# Altium schematic symbol library Schlib1.SchLib: 11 symbols
Pins are listed as number, name and electrical type; pins without a type are passive.

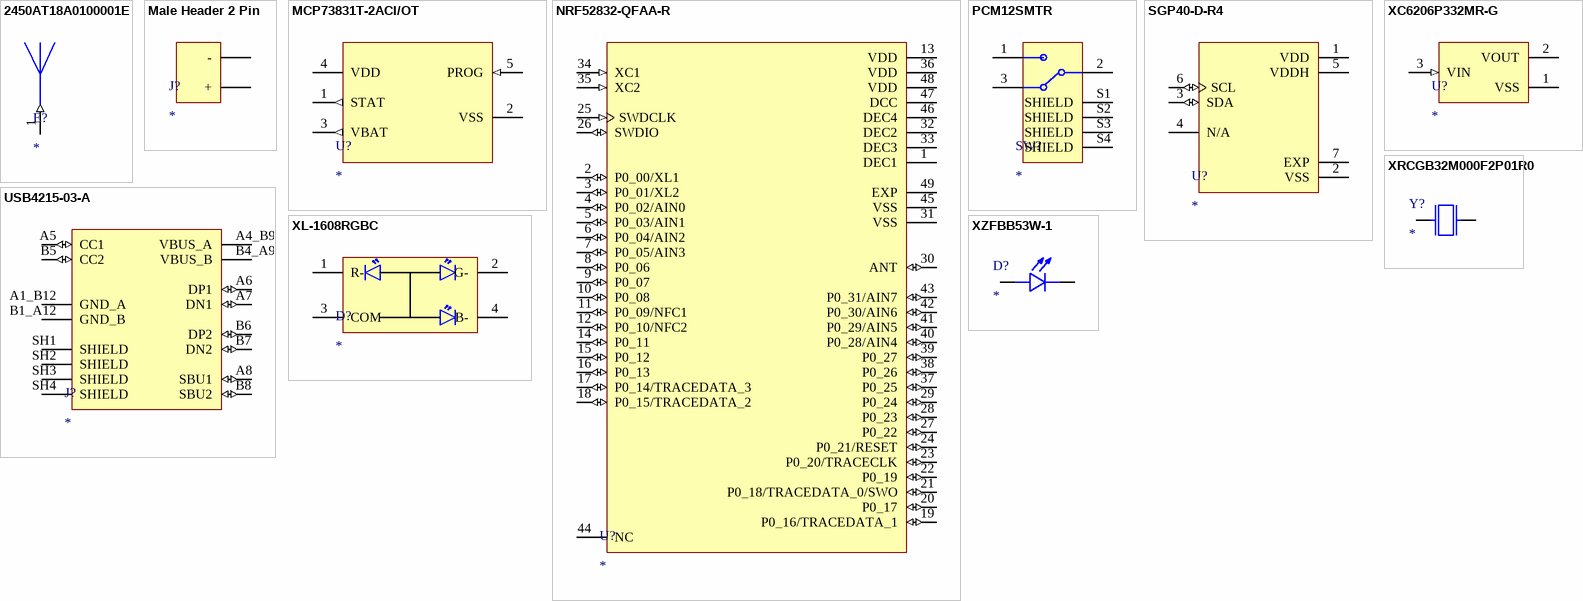
[diagram p0: symbols 2450AT18A0100001E to XZFBB53W-1]

## 2450AT18A0100001E
designator E?
2.4GHz Chip RF Antenna 2.4GHz ~ 2.5GHz 0.5dBi Solder Surface Mount
footprint 2450AT18A0100001E
pins: 1 (in)

## Male Header 2 Pin
designator J?
footprint Male Header 2 Pin
pins: 01 -, 02 +

## MCP73831T-2ACI/OT
designator U?
Charger IC Lithium Ion/Polymer SOT-23-5
footprint MCP73831T-2ACI/OT
pins: 1 STAT (out), 2 VSS (power), 3 VBAT (out), 4 VDD (power), 5 PROG (in)

## NRF52832-QFAA-R
designator U?
IC RF TxRx + MCU Bluetooth, General ISM > 1GHz ANT, Bluetooth v5.0 2.4GHz 48-VFQFN Exposed Pad
footprint NRF52832-QFAA-R
pins: 1 DEC1 (power), 2 P0_00/XL1 (io), 3 P0_01/XL2 (io), 4 P0_02/AIN0 (io), 5 P0_03/AIN1 (io), 6 P0_04/AIN2 (io), 7 P0_05/AIN3 (io), 8 P0_06 (io), 9 P0_07 (io), 10 P0_08 (io), 11 P0_09/NFC1 (io), 12 P0_10/NFC2 (io), 13 VDD (power), 14 P0_11 (io), 15 P0_12 (io), 16 P0_13 (io), 17 P0_14/TRACEDATA_3 (io), 18 P0_15/TRACEDATA_2 (io), 19 P0_16/TRACEDATA_1 (io), 20 P0_17 (io), 21 P0_18/TRACEDATA_0/SWO (io), 22 P0_19 (io), 23 P0_20/TRACECLK (io), 24 P0_21/RESET (io), 25 SWDCLK (in), 26 SWDIO (io), 27 P0_22 (io), 28 P0_23 (io), 29 P0_24 (io), 30 ANT (io), 31 VSS (power), 32 DEC2 (power), 33 DEC3 (power), 34 XC1 (in), 35 XC2 (in), 36 VDD (power), 37 P0_25 (io), 38 P0_26 (io), 39 P0_27 (io), 40 P0_28/AIN4 (io), 41 P0_29/AIN5 (io), 42 P0_30/AIN6 (io), 43 P0_31/AIN7 (io), 44 NC, 45 VSS (power), 46 DEC4 (power), 47 DCC (power), 48 VDD (power), 49 EXP (power)

## PCM12SMTR
designator SW?
Slide Switch SPDT Surface Mount, Right Angle
footprint PCM12SMTR
pins: 1, 2, 3, S1 SHIELD, S2 SHIELD, S3 SHIELD, S4 SHIELD

## SGP40-D-R4
designator U?
MOx based gas sensor for indoor air quality applications
footprint SGP40-D-R4
pins: 1 VDD (power), 2 VSS (power), 3 SDA (io), 4 N/A, 5 VDDH (power), 6 SCL (io), 7 EXP (power)

## USB4215-03-A
designator J?
USB-C (USB TYPE-C) USB 2.0 Receptacle Connector 24 (16+8 Dummy) Position Surface Mount, Right Angle; Through Hole
footprint USB4215-03-A
pins: A1_B12 GND_A (power), A4_B9 VBUS_A (power), A5 CC1 (io), A6 DP1 (io), A7 DN1 (io), A8 SBU1 (io), B1_A12 GND_B (power), B4_A9 VBUS_B (power), B5 CC2 (io), B6 DP2 (io), B7 DN2 (io), B8 SBU2 (io), SH1 SHIELD, SH2 SHIELD, SH3 SHIELD, SH4 SHIELD

## XC6206P332MR-G
designator U?
Linear Voltage Regulator IC Positive Fixed 1 Output 200mA SOT-23
footprint SOT-23
pins: 1 VSS, 2 VOUT (power), 3 VIN (in)

## XL-1608RGBC
designator D?
Red, Green, Blue (RGB) 625nm Red, 525nm Green, 470nm Blue LED Indication - Discrete 2.1V Red, 3.1V Green, 3.1V Blue 0603 (1608 Metric)
footprint XL-1608RGBC
pins: 1 R-, 2 G-, 3 COM, 4 B-

## XRCGB32M000F2P01R0
designator Y?
32 MHz ±20ppm Crystal 8pF 100 Ohms 4-SMD, No Lead
footprint XRCGB32M000F2P01R0
pins: 1, 2

## XZFBB53W-1
designator D?
1.6X0.8MM BLUE SMD 0603 LED
footprint XZFBB53W-1
pins: A, C